# Altium footprint library AltiumOpenLibs.PcbLib: 173 footprints (part 3 of 11)
Each footprint in its own frame and in the unit in brackets; x right, y up, seen from the top. Pads: shape width x height; smd on the part's side, far side on the other; paste and mask are expansions set on the pad; w line width, h text height; cw(c..) or ccw(c..) is an arc to the next point about the centre after c.
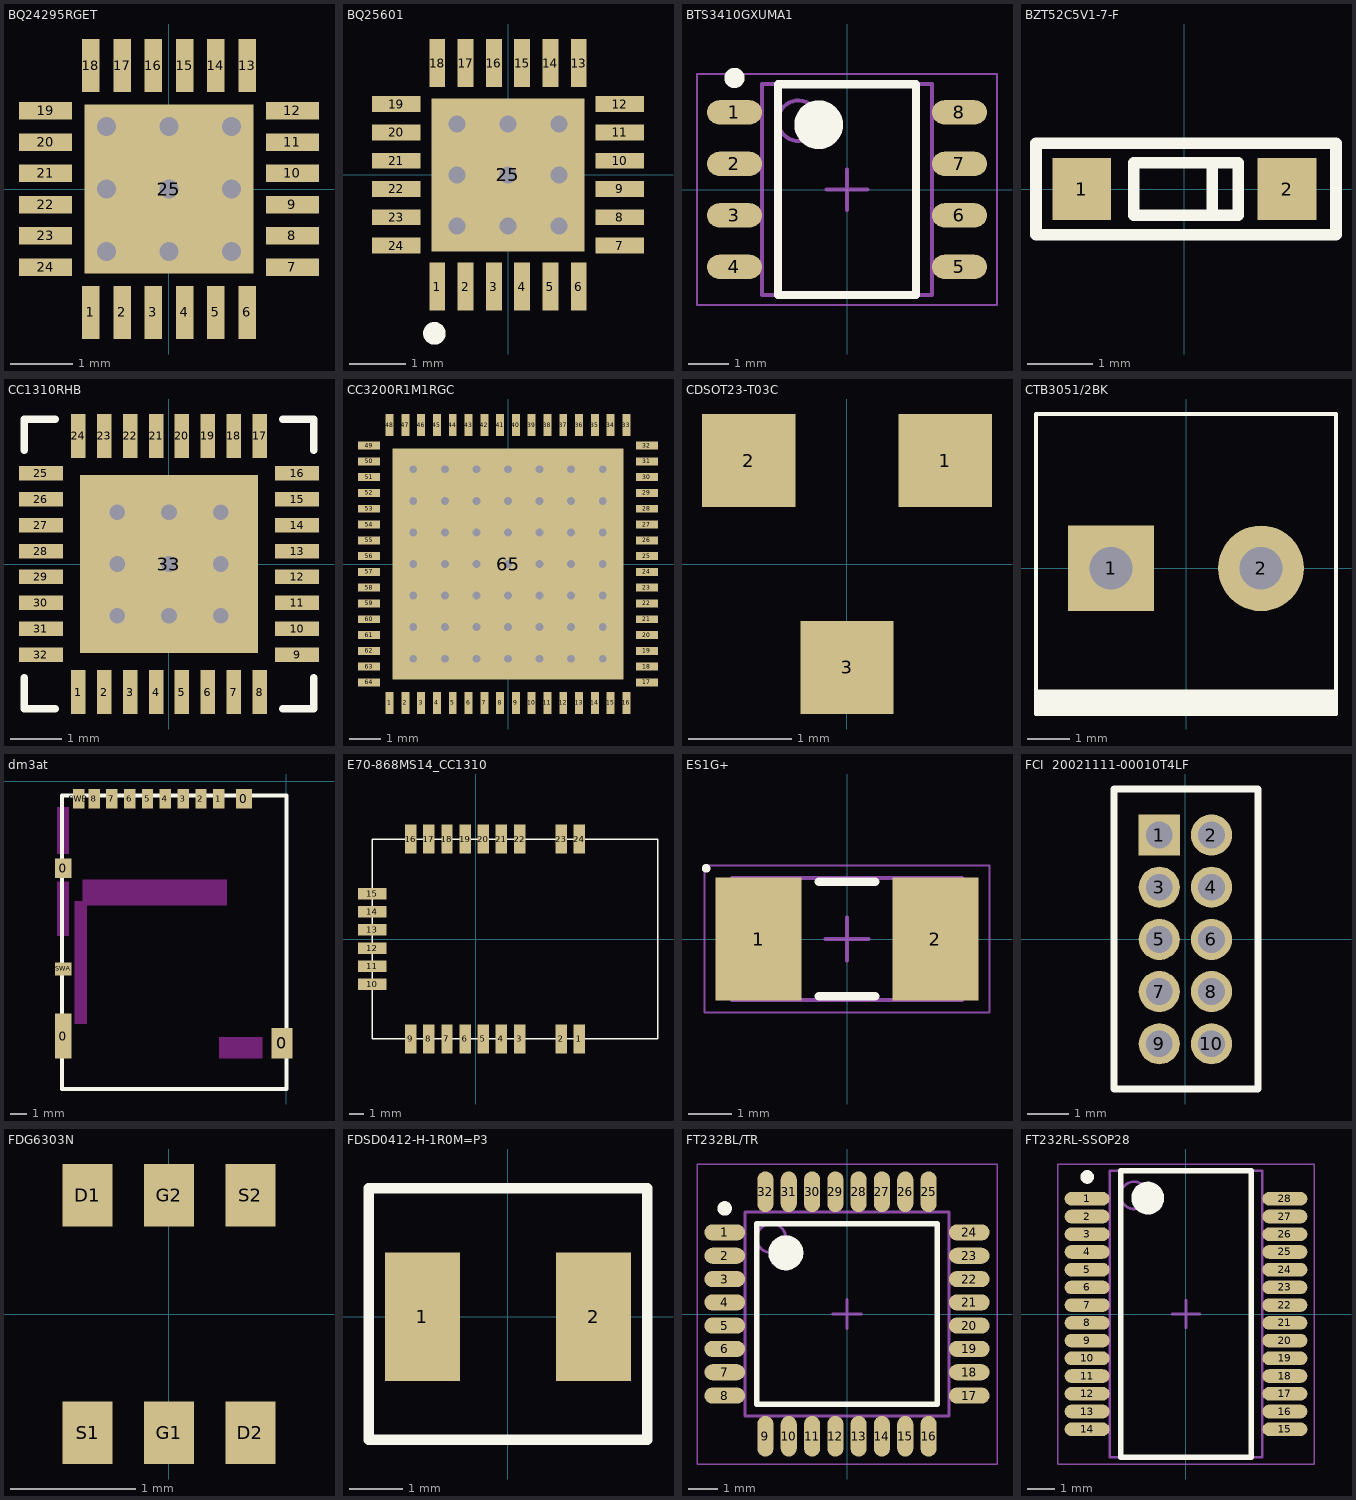
[diagram p2: the footprints below, top view; thin cyan lines are the x and y axes]

## BQ24295RGET [mm]
pads (25):
  rect 0.28x0.85 smd mask+0.07: 1(-1.25,-1.975) 2(-0.75,-1.975) 3(-0.25,-1.975) 4(0.25,-1.975) 5(0.75,-1.975) 6(1.25,-1.975) 13(1.25,1.975) 14(0.75,1.975) 15(0.25,1.975) 16(-0.25,1.975) 17(-0.75,1.975) 18(-1.25,1.975)
  rect 0.85x0.28 smd mask+0.07: 7(1.975,-1.25) 8(1.975,-0.75) 9(1.975,-0.25) 10(1.975,0.25) 11(1.975,0.75) 12(1.975,1.25) 19(-1.975,1.25) 20(-1.975,0.75) 21(-1.975,0.25) 22(-1.975,-0.25) 23(-1.975,-0.75) 24(-1.975,-1.25)
  rect 2.7x2.7 hole 0.3 paste-2.7: 25(0,0)
via 0,1 diameter 0.3 hole 0.3
via 0,-1 diameter 0.3 hole 0.3
via 1,-1 diameter 0.3 hole 0.3
via 1,0 diameter 0.3 hole 0.3
via 1,1 diameter 0.3 hole 0.3
via -1,-1 diameter 0.3 hole 0.3
via -1,0 diameter 0.3 hole 0.3
via -1,1 diameter 0.3 hole 0.3
Top Paste:
  region: -0.15,0.15 -0.15,1.25 -1.25,1.25 -1.25,0.15
  region: -0.15,-0.15 -1.25,-0.15 -1.25,-1.25 -0.15,-1.25
  region: 0.15,-0.15 0.15,-1.25 1.25,-1.25 1.25,-0.15
  rectangle: 0.15,0.15 1.25,1.25

## BQ25601 [mm]
pads (25):
  rect 0.28x0.85 smd mask+0.07: 1(-1.25,-1.975) 2(-0.75,-1.975) 3(-0.25,-1.975) 4(0.25,-1.975) 5(0.75,-1.975) 6(1.25,-1.975) 13(1.25,1.975) 14(0.75,1.975) 15(0.25,1.975) 16(-0.25,1.975) 17(-0.75,1.975) 18(-1.25,1.975)
  rect 0.85x0.28 smd mask+0.07: 7(1.975,-1.25) 8(1.975,-0.75) 9(1.975,-0.25) 10(1.975,0.25) 11(1.975,0.75) 12(1.975,1.25) 19(-1.975,1.25) 20(-1.975,0.75) 21(-1.975,0.25) 22(-1.975,-0.25) 23(-1.975,-0.75) 24(-1.975,-1.25)
  rect 2.7x2.7 all layers, no hole paste-2.7 mask+0.02: 25(0,0)
via 0.9,0.9 diameter 0.3 hole 0.3
via 0.9,0 diameter 0.3 hole 0.3
via 0.9,-0.9 diameter 0.3 hole 0.3
via 0,0.9 diameter 0.3 hole 0.3
via 0,0 diameter 0.3 hole 0.3
via 0,-0.9 diameter 0.3 hole 0.3
via -0.9,-0.9 diameter 0.3 hole 0.3
via -0.9,0 diameter 0.3 hole 0.3
via -0.9,0.9 diameter 0.3 hole 0.3
Top Overlay:
  circle w0.2: c-1.3,-2.8 r0.1
Top Paste:
  rectangle: -1.25,-1.25 -0.15,-0.15
  rectangle: -1.25,0.15 -0.15,1.25
  rectangle: 0.15,-1.25 1.25,-0.15
  rectangle: 0.15,0.15 1.25,1.25

## BTS3410GXUMA1 [mm] "SOIC, 8-Leads, Body 5,10x4,10mm, Pitch 1,27mm, IPC Medium Density"
height 1.75
pads (8):
  oval 1.35x0.6 smd: 1(-2.775,1.905) 2(-2.775,0.635) 3(-2.775,-0.635) 4(-2.775,-1.905) 5(2.775,-1.905) 6(2.775,-0.635) 7(2.775,0.635) 8(2.775,1.905)
Top Overlay:
  circle w0.25: c-2.775,2.755 r0.125
  circle w0.6: c-0.7,1.6 r0.3
  lines w0.2: -1.7,-2.6 -1.7,2.6 1.7,2.6 1.7,-2.6 -1.7,-2.6
Mechanical 13:
  circle w0.1: c-1.2,1.7 r0.5
  lines w0.1: -2.1,-2.6 -2.1,2.6 2.1,2.6 2.1,-2.6 -2.1,-2.6
Mechanical 15:
  lines w0.05: -3.7,-2.85 -3.7,2.85 3.7,2.85 3.7,-2.85 -3.7,-2.85
  lines w0.1: -0.5,0 0.5,0 ; 0,-0.5 0,0.5
3D body: height 1.75, standoff 0.1, extent -2.1,-2.6 2.1,2.6

## BZT52C5V1-7-F [mm]
pads (2):
  rect 0.9x0.95 smd: 1(-1.575,0) 2(1.575,0)
Top Overlay:
  lines w0.178: 0.425,-0.4 0.425,0.4 ; -2.275,-0.7 -2.275,0.7 2.325,0.7 2.325,-0.7 -2.275,-0.7 ; -0.775,-0.4 -0.775,0.4 0.825,0.4 0.825,-0.4 -0.775,-0.4

## CC1310RHB [mm]
pads (33):
  rect 0.28x0.85 smd mask+0.07: 1(-1.75,-2.475) 2(-1.25,-2.475) 3(-0.75,-2.475) 4(-0.25,-2.475) 5(0.25,-2.475) 6(0.75,-2.475) 7(1.25,-2.475) 8(1.75,-2.475) 17(1.75,2.475) 18(1.25,2.475) 19(0.75,2.475) 20(0.25,2.475) 21(-0.25,2.475) 22(-0.75,2.475) 23(-1.25,2.475) 24(-1.75,2.475)
  rect 0.85x0.28 smd mask+0.07: 9(2.475,-1.75) 10(2.475,-1.25) 11(2.475,-0.75) 12(2.475,-0.25) 13(2.475,0.25) 14(2.475,0.75) 15(2.475,1.25) 16(2.475,1.75) 25(-2.475,1.75) 26(-2.475,1.25) 27(-2.475,0.75) 28(-2.475,0.25) 29(-2.475,-0.25) 30(-2.475,-0.75) 31(-2.475,-1.25) 32(-2.475,-1.75)
  rect 3.45x3.45 hole 0.3 paste+1 mask+0.07: 33(0,0)
via -1,0 diameter 0.6 hole 0.3
via -1,-1 diameter 0.6 hole 0.3
via 0,-1 diameter 0.6 hole 0.3
via 1,-1 diameter 0.6 hole 0.3
via 1,0 diameter 0.6 hole 0.3
via 1,1 diameter 0.6 hole 0.3
via 0,1 diameter 0.6 hole 0.3
via -1,1 diameter 0.6 hole 0.3
Top Overlay:
  lines w0.15: -2.8,-2.2 -2.8,-2.8 -2.2,-2.8 ; -2.8,2.2 -2.8,2.8 -2.2,2.8 ; 2.2,-2.8 2.8,-2.8 2.8,-2.2 ; 2.2,2.8 2.8,2.8 2.8,2.2
Top Paste:
  rectangle: -1.6,-1.6 -0.15,-0.15
  rectangle: 0.15,-1.6 1.6,-0.15
  rectangle: 0.15,0.15 1.6,1.6
  rectangle: -1.6,0.15 -0.15,1.6

## CC3200R1M1RGC [mm]
pads (65):
  rect 0.25x0.7 smd: 1(-3.75,-4.4) 2(-3.25,-4.4) 3(-2.75,-4.4) 4(-2.25,-4.4) 5(-1.75,-4.4) 6(-1.25,-4.4) 7(-0.75,-4.4) 8(-0.25,-4.4) 9(0.25,-4.4) 10(0.75,-4.4) 11(1.25,-4.4) 12(1.75,-4.4) 13(2.25,-4.4) 14(2.75,-4.4) 15(3.25,-4.4) 16(3.75,-4.4) 33(3.75,4.4) 34(3.25,4.4) 35(2.75,4.4) 36(2.25,4.4) 37(1.75,4.4) 38(1.25,4.4) 39(0.75,4.4) 40(0.25,4.4) 41(-0.25,4.4) 42(-0.75,4.4) 43(-1.25,4.4) 44(-1.75,4.4) 45(-2.25,4.4) 46(-2.75,4.4) 47(-3.25,4.4) 48(-3.75,4.4)
  rect 0.7x0.25 smd: 17(4.4,-3.75) 18(4.4,-3.25) 19(4.4,-2.75) 20(4.4,-2.25) 21(4.4,-1.75) 22(4.4,-1.25) 23(4.4,-0.75) 24(4.4,-0.25) 25(4.4,0.25) 26(4.4,0.75) 27(4.4,1.25) 28(4.4,1.75) 29(4.4,2.25) 30(4.4,2.75) 31(4.4,3.25) 32(4.4,3.75) 49(-4.4,3.75) 50(-4.4,3.25) 51(-4.4,2.75) 52(-4.4,2.25) 53(-4.4,1.75) 54(-4.4,1.25) 55(-4.4,0.75) 56(-4.4,0.25) 57(-4.4,-0.25) 58(-4.4,-0.75) 59(-4.4,-1.25) 60(-4.4,-1.75) 61(-4.4,-2.25) 62(-4.4,-2.75) 63(-4.4,-3.25) 64(-4.4,-3.75)
  rect 7.3x7.3 all layers, no hole: 65(0,0)
via 0,0 diameter 0.25 hole 0.25
via 0,1 diameter 0.25 hole 0.25
via 1,1 diameter 0.25 hole 0.25
via 1,0 diameter 0.25 hole 0.25
via 1,-1 diameter 0.25 hole 0.25
via 0,-1 diameter 0.25 hole 0.25
via -1,-1 diameter 0.25 hole 0.25
via -1,0 diameter 0.25 hole 0.25
via -1,1 diameter 0.25 hole 0.25
via -1,2 diameter 0.25 hole 0.25
via 0,2 diameter 0.25 hole 0.25
via 1,2 diameter 0.25 hole 0.25
via 2,2 diameter 0.25 hole 0.25
via 2,1 diameter 0.25 hole 0.25
via 2,0 diameter 0.25 hole 0.25
via 2,-1 diameter 0.25 hole 0.25
via 2,-2 diameter 0.25 hole 0.25
via 1,-2 diameter 0.25 hole 0.25
via 0,-2 diameter 0.25 hole 0.25
via -1,-2 diameter 0.25 hole 0.25
via -2,-2 diameter 0.25 hole 0.25
via -2,-1 diameter 0.25 hole 0.25
via -2,0 diameter 0.25 hole 0.25
via -2,1 diameter 0.25 hole 0.25
via -2,2 diameter 0.25 hole 0.25
via -2,3 diameter 0.25 hole 0.25
via -1,3 diameter 0.25 hole 0.25
via 0,3 diameter 0.25 hole 0.25
via 1,3 diameter 0.25 hole 0.25
via 2,3 diameter 0.25 hole 0.25
via 3,3 diameter 0.25 hole 0.25
via 3,2 diameter 0.25 hole 0.25
via 3,1 diameter 0.25 hole 0.25
via 3,0 diameter 0.25 hole 0.25
via 3,-1 diameter 0.25 hole 0.25
via 3,-2 diameter 0.25 hole 0.25
via 3,-3 diameter 0.25 hole 0.25
via 2,-3 diameter 0.25 hole 0.25
via 1,-3 diameter 0.25 hole 0.25
via 0,-3 diameter 0.25 hole 0.25
via -1,-3 diameter 0.25 hole 0.25
via -2,-3 diameter 0.25 hole 0.25
via -3,-3 diameter 0.25 hole 0.25
via -3,-2 diameter 0.25 hole 0.25
via -3,-1 diameter 0.25 hole 0.25
via -3,0 diameter 0.25 hole 0.25
via -3,1 diameter 0.25 hole 0.25
via -3,2 diameter 0.25 hole 0.25
via -3,3 diameter 0.25 hole 0.25

## CDSOT23-T03C [mm]
pads (3):
  rect 0.9x0.9 smd: 1(0.95,1) 2(-0.95,1) 3(0,-1)

## CTB3051/2BK [mm]
pads (2):
  rect 2x2 hole 1: 1(-1.75,0)
  round 2 hole 1: 2(1.75,0)
Top Overlay:
  rectangle: -3.5,-3.4 3.5,-2.88
  lines w0.1: -3.5,-2.88 3.5,-2.88 ; -3.5,-3.4 -3.5,3.6 3.5,3.6 3.5,-3.4 -3.5,-3.4

## dm3at [mm]
pads (14):
  rect 1x2.8 smd: 0(-13.77,-15.73)
  rect 1x1.2 smd: 0(-13.77,-5.38) 0(-2.62,-1.08)
  rect 1.3x1.9 smd: 0(-0.27,-16.18)
  rect 0.7x1.2 smd: 1(-4.17,-1.08) 2(-5.27,-1.08) 3(-6.37,-1.08) 4(-7.47,-1.08) 5(-8.57,-1.08) 6(-9.67,-1.08) 7(-10.77,-1.08) 8(-11.87,-1.08) SWB(-12.82,-1.08)
  rect 1x0.8 smd: SWA(-13.77,-11.58)
Top Overlay:
  lines w0.254: -13.85,-19 0,-19 0,-0.87 -13.85,-0.87 -13.85,-19
Keep-Out Layer:
  region: -13.41,-1.6 -14.16,-1.6 -14.16,-4.5 -13.41,-4.5
  region: -13.41,-6.2 -14.16,-6.2 -14.16,-9.57 -13.41,-9.57
  region: -12.32,-7.38 -13.07,-7.38 -13.07,-14.98 -12.32,-14.98
  region: -1.47,-15.78 -4.17,-15.78 -4.17,-17.13 -1.47,-17.13
  region: -12.59,-6.06 -12.59,-7.66 -3.67,-7.66 -3.67,-6.06
3D body "DM3AT-SF-PEJM5.stp": height 1.68, standoff 0, extent -13.88,-17.105 -0.03,-0.955

## E70-868MS14_CC1310 [mm]
pads (24):
  rect 0.8x2 smd: 1(7.25,-7) 2(5.98,-7) 3(3.06,-7) 4(1.79,-7) 5(0.52,-7) 6(-0.75,-7) 7(-2.02,-7) 8(-3.29,-7) 9(-4.56,-7) 16(-4.56,7) 17(-3.29,7) 18(-2.02,7) 19(-0.75,7) 20(0.52,7) 21(1.79,7) 22(3.06,7) 23(5.98,7) 24(7.25,7)
  rect 2x0.8 smd: 10(-7.25,-3.175) 11(-7.25,-1.905) 12(-7.25,-0.635) 13(-7.25,0.635) 14(-7.25,1.905) 15(-7.25,3.175)
Top Overlay:
  lines w0.1: -7.25,-7 -7.25,7 12.75,7 12.75,-7 -7.25,-7

## ES1G+ [mm] "Chip Diode, 2-Leads, Body 5.14x2.56mm, IPC Medium Density"
height 2.5
pads (2):
  rect 2x2.85 smd: 1(-2.05,0) 2(2.05,0)
Top Overlay:
  circle w0.1: c-3.262,1.637 r0.05
  lines w0.2: -0.65,-1.325 0.65,-1.325 ; -0.65,1.325 0.65,1.325
Mechanical 13:
  lines w0.1: -2.665,-1.415 -2.665,1.415 2.665,1.415 2.665,-1.415 -2.665,-1.415
Mechanical 15:
  lines w0.05: -3.3,-1.7 -3.3,1.7 3.3,1.7 3.3,-1.7 -3.3,-1.7
  lines w0.1: -0.5,0 0.5,0 ; 0,-0.5 0,0.5
3D body: height 2.5, standoff 0, extent -1.505,-1.415 1.505,1.415
3D body: height 2.5, standoff 0, extent -2.665,-1.415 -1.505,1.415
3D body: height 2.5, standoff 0, extent 1.505,-1.415 2.665,1.415

## FCI  20021111-00010T4LF [mm]
pads (10):
  rect 1x1 hole 0.65: 1(-0.635,2.54)
  round 1 hole 0.65: 2(0.635,2.54) 3(-0.635,1.27) 4(0.635,1.27) 5(-0.635,0) 6(0.635,0) 7(-0.635,-1.27) 8(0.635,-1.27) 9(-0.635,-2.54) 10(0.635,-2.54)
Top Overlay:
  lines w0.178: -1.735,-3.64 -1.735,3.66 1.765,3.66 1.765,-3.64 -1.735,-3.64

## FDG6303N [mm]
pads (6):
  rect 0.4x0.5 smd: D1(-0.65,0.95) D2(0.65,-0.95) G1(0,-0.95) G2(0,0.95) S1(-0.65,-0.95) S2(0.65,0.95)
3D body "User Library-sot363.STEP": height 1, standoff 0, extent -1.04,-1.15 1.06,1.15

## FDSD0412-H-1R0M=P3 [mm]
pads (2):
  rect 1.4x2.4 smd: 1(-1.6,0) 2(1.6,0)
Top Overlay:
  lines w0.2: -2.6,-2.3 -2.6,2.4 2.6,2.4 2.6,-2.3 -2.6,-2.3

## FT232BL/TR [mm] "TQFP, 32-Leads, Body 7.00x7.00mm, Pitch 0.80mm, IPC Medium Density"
height 1.6
pads (32):
  oval 1.4x0.55 smd: 1(-4.2,2.8) 2(-4.2,2) 3(-4.2,1.2) 4(-4.2,0.4) 5(-4.2,-0.4) 6(-4.2,-1.2) 7(-4.2,-2) 8(-4.2,-2.8) 17(4.2,-2.8) 18(4.2,-2) 19(4.2,-1.2) 20(4.2,-0.4) 21(4.2,0.4) 22(4.2,1.2) 23(4.2,2) 24(4.2,2.8)
  oval 0.55x1.4 smd: 9(-2.8,-4.2) 10(-2,-4.2) 11(-1.2,-4.2) 12(-0.4,-4.2) 13(0.4,-4.2) 14(1.2,-4.2) 15(2,-4.2) 16(2.8,-4.2) 25(2.8,4.2) 26(2,4.2) 27(1.2,4.2) 28(0.4,4.2) 29(-0.4,4.2) 30(-1.2,4.2) 31(-2,4.2) 32(-2.8,4.2)
Top Overlay:
  circle w0.25: c-4.2,3.625 r0.125
  circle w0.6: c-2.1,2.1 r0.3
  lines w0.2: -3.1,-3.1 -3.1,3.1 3.1,3.1 3.1,-3.1 -3.1,-3.1
Mechanical 13:
  circle w0.1: c-2.6,2.6 r0.5
  lines w0.1: -3.5,-3.5 -3.5,3.5 3.5,3.5 3.5,-3.5 -3.5,-3.5
Mechanical 15:
  lines w0.05: -5.15,-5.15 -5.15,5.15 5.15,5.15 5.15,-5.15 -5.15,-5.15
  lines w0.1: -0.5,0 0.5,0 ; 0,-0.5 0,0.5
3D body: height 1.6, standoff 0.05, extent -3.5,-3.5 3.5,3.5

## FT232RL-SSOP28 [mm] "SOP, 28-Leads, Body 10.20x5.30mm, Pitch 0.65mm, IPC Medium Density"
height 2
pads (28):
  oval 1.65x0.5 smd: 1(-3.625,4.225) 2(-3.625,3.575) 3(-3.625,2.925) 4(-3.625,2.275) 5(-3.625,1.625) 6(-3.625,0.975) 7(-3.625,0.325) 8(-3.625,-0.325) 9(-3.625,-0.975) 10(-3.625,-1.625) 11(-3.625,-2.275) 12(-3.625,-2.925) 13(-3.625,-3.575) 14(-3.625,-4.225) 15(3.625,-4.225) 16(3.625,-3.575) 17(3.625,-2.925) 18(3.625,-2.275) 19(3.625,-1.625) 20(3.625,-0.975) 21(3.625,-0.325) 22(3.625,0.325) 23(3.625,0.975) 24(3.625,1.625) 25(3.625,2.275) 26(3.625,2.925) 27(3.625,3.575) 28(3.625,4.225)
Top Overlay:
  circle w0.25: c-3.625,5.025 r0.125
  circle w0.6: c-1.4,4.25 r0.3
  lines w0.2: -2.4,-5.25 -2.4,5.25 2.4,5.25 2.4,-5.25 -2.4,-5.25
Mechanical 13:
  circle w0.1: c-1.9,4.35 r0.5
  lines w0.1: -2.8,-5.25 -2.8,5.25 2.8,5.25 2.8,-5.25 -2.8,-5.25
Mechanical 15:
  lines w0.05: -4.7,-5.5 -4.7,5.5 4.7,5.5 4.7,-5.5 -4.7,-5.5
  lines w0.1: -0.5,0 0.5,0 ; 0,-0.5 0,0.5
3D body: height 2, standoff 0.05, extent -2.8,-5.25 2.8,5.25